# EAGLE library part SD_CARD (library everykey)
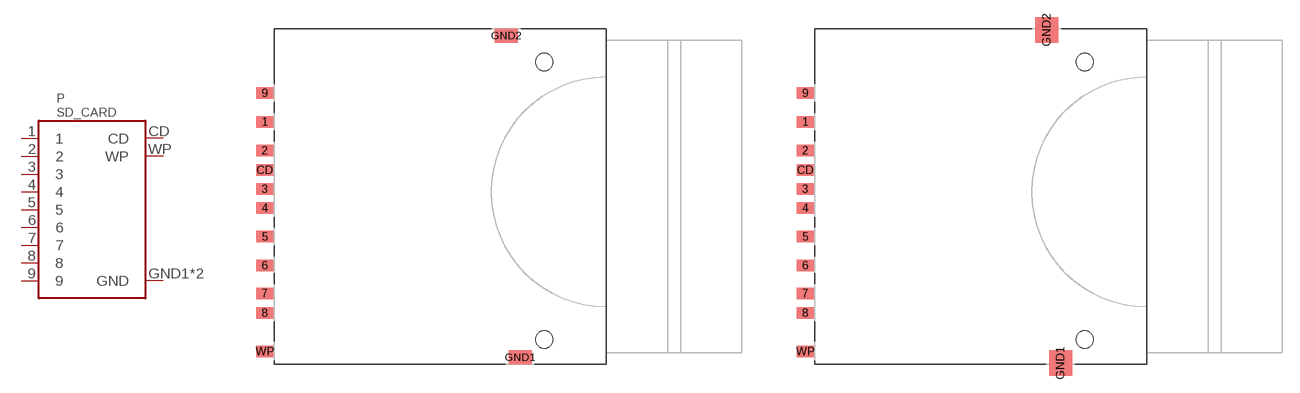
[diagram p47: symbol with the pads of AMPHENOL_101_00313; footprints AMPHENOL_101_00313, AMPHENO_101_00313_EXT_PADS]

Designator prefix P

## SD_CARDSTANDARD  [AMPHENOL_101_00313]
1  1
2  2
3  3
4  4
5  5
6  6
7  7
8  8
9  9
CD  CD
GND1  GND
GND2  GND
WP  WP

## SD_CARDEXTENDED  [AMPHENO_101_00313_EXT_PADS]
Pads as for AMPHENOL_101_00313

## Footprint AMPHENOL_101_00313 (pad centres in mm)
Amphenol SD card slot, push-push
smd 1.5 x 1: 1 -24.31,6.1; 2 -24.31,3.6; 3 -24.31,0.25; 4 -24.31,-1.4; 5 -24.31,-3.9; 6 -24.31,-6.4; 7 -24.31,-8.83; 8 -24.31,-10.53; 9 -24.31,8.6; CD -24.31,1.9; WP -24.31,-13.88
smd 2 x 1.2: GND1 -2.1,-14.4; GND2 -3.3,13.6
hole 1.5 at 0,11.3
hole 1.5 at 0,-12.85

## Footprint AMPHENO_101_00313_EXT_PADS (pad centres in mm)
SD card holder with larger ground pads for easier maual solderability.
smd 1.5 x 1: 1 -24.31,6.1; 2 -24.31,3.6; 3 -24.31,0.25; 4 -24.31,-1.4; 5 -24.31,-3.9; 6 -24.31,-6.4; 7 -24.31,-8.83; 8 -24.31,-10.53; 9 -24.31,8.6; CD -24.31,1.9; WP -24.31,-13.88
smd 2 x 2.2: GND1 -2.1,-14.9; GND2 -3.3,14.1
hole 1.5 at 0,11.3
hole 1.5 at 0,-12.85